# Altium schematic symbol library C0201C470J8GACTU.SchLib: 1 symbol
Pins are listed as number, name and electrical type; pins without a type are passive.

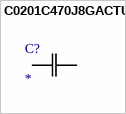
[diagram p0: symbol C0201C470J8GACTU]

## C0201C470J8GACTU
designator C?
No Description Available; Mfr_Name: Kemet
footprint CAPC6333_33N_KEM
pins: 1, 2